# EAGLE library part LMR12010YMKE/NOPB (library Common-Parts-Library-Eagle)
LMR12010 SIMPLE SWITCHER® 20Vin, 1A Step-Down Voltage Regulator in SOT-23
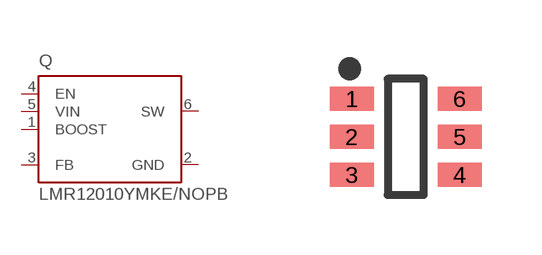
[diagram p37: symbol with the pads of SOT95P280X110-6N; footprint SOT95P280X110-6N]

Designator prefix Q

## LMR12010YMKE/NOPB (MANUFACTURER: Texas Instruments)  [SOT95P280X110-6N]
1  BOOST  in
2  GND  pwr
3  FB  pas
4  EN  in
5  VIN  in
6  SW  out

## Footprint SOT95P280X110-6N (pad centres in mm)
smd 1.1 x 0.6: 1 -1.35,0.95; 2 -1.35,0; 3 -1.35,-0.95; 4 1.35,-0.95; 5 1.35,0; 6 1.35,0.95